# EAGLE library part WIICAM (library wiicam)
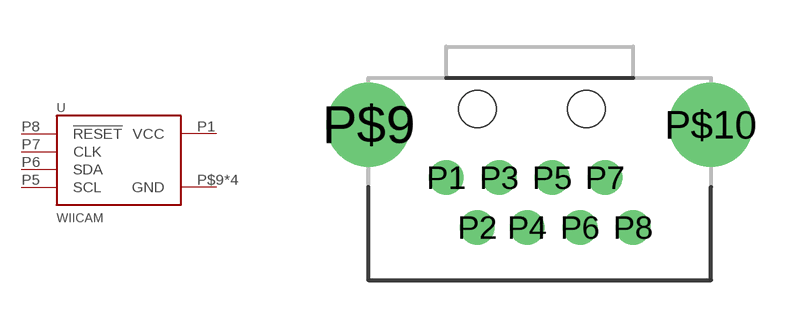
[diagram p0: symbol with the pads of WIICAM; footprint WIICAM]

Designator prefix -

## WIICAM  [WIICAM]
P1  VCC
P2  GND
P3  GND
P5  SCL
P6  SDA
P7  CLK
P8  !RESET
P$9  GND
P$10  GND

## Footprint WIICAM (pad centres in mm)
drill 0.6: P1 -3,0.8; P2 -2,-0.8; P3 -1.3,0.8; P4 -0.4,-0.8; P5 0.4,0.8; P6 1.3,-0.8; P7 2.1,0.8; P8 3,-0.8
drill 1.8: P$9 -5.5,2.5; P$10 5.5,2.5
hole 1.2 at -2,3
hole 1.2 at 1.5,3